# Altium schematic symbol library BQ24090.SchLib: 1 symbol
Pins are listed as number, name and electrical type; pins without a type are passive.

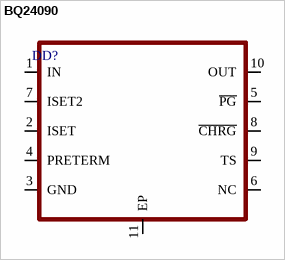
[diagram p0: symbol BQ24090]

## BQ24090
designator DD?
pins: 1 IN, 2 ISET, 3 GND, 4 PRETERM, 5 ~{PG}, 6 NC, 7 ISET2, 8 ~{CHRG}, 9 TS, 10 OUT, 11 EP